# Altium schematic symbol library 2921-00057.SchLib: 1 symbol
Pins are listed as number, name and electrical type; pins without a type are passive.

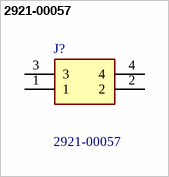
[diagram p0: symbol 2921-00057]

## 2921-00057
designator J?
SMA Connector Jack, Female Socket 50Ohm Board Edge, End Launch; Panel Mount, Right Angle Solder; Manufacturer_Name: Amphenol; Geometry.Height: 6.477mm; Mouser Part Number: *; Mouser Price/Stock: *; Manufacturer_Part_Number: 2921-00057; Datasheet Link: https://www.svmicrowave.com/Attachment/DownloadFile?downloadId=11255
footprint 292100057
pins: 1, 2, 3, 4